# EAGLE library part MOCD217M (library NEON-BLADE-2024)
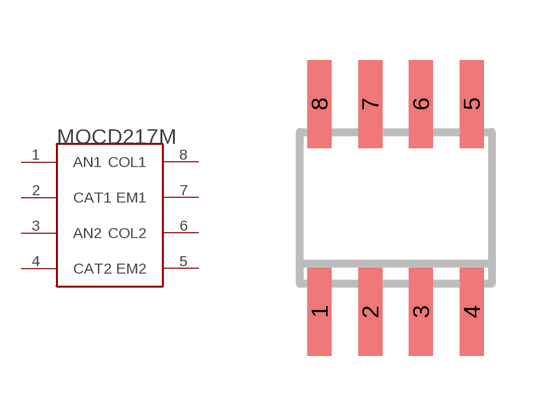
[diagram p23: symbol with the pads of SOIC8; footprint SOIC8]

Designator prefix -

## MOCD217M  [SOIC8]
1  AN1
2  CAT1
3  AN2
4  CAT2
5  EM2
6  COL2
7  EM1
8  COL1

## Footprint SOIC8 (pad centres in mm)
Small Outline IC
smd 0.6 x 2.2: 1 -1.905,-2.6; 2 -0.635,-2.6; 3 0.635,-2.6; 4 1.905,-2.6; 5 1.905,2.6; 6 0.635,2.6; 7 -0.635,2.6; 8 -1.905,2.6